# EAGLE library part 74LVC8T245 (library X893)
http://focus.ti.com/lit/ds/symlink/sn74lvc8t245.pdf
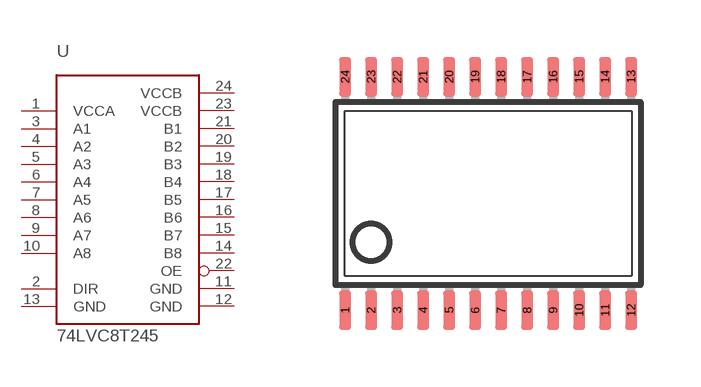
[diagram p78: symbol with the pads of TSSOP24; footprint TSSOP24]

Designator prefix U

## 74LVC8T245PWR  [TSSOP24]
1  VCCA  pas
2  DIR  in
3  A1
4  A2
5  A3
6  A4
7  A5
8  A6
9  A7
10  A8
11  GND  sup
12  GND  sup
13  GND  sup
14  B8
15  B7
16  B6
17  B5
18  B4
19  B3
20  B2
21  B1
22  OE  in
23  VCCB  pas
24  VCCB  pas

## Footprint TSSOP24 (pad centres in mm)
Thin Shrink Small Outline Plastic 24 MAX3223-MAX3243.pdf
smd 0.305 x 0.991: 1 -3.575,-2.918; 2 -2.925,-2.918; 3 -2.275,-2.918; 4 -1.625,-2.918; 5 -0.975,-2.918; 6 -0.325,-2.918; 7 0.325,-2.918; 8 0.975,-2.918; 9 1.625,-2.918; 10 2.275,-2.918; 11 2.925,-2.918; 12 3.575,-2.918; 13 3.575,2.918; 14 2.925,2.918; 15 2.275,2.918; 16 1.625,2.918; 17 0.975,2.918; 18 0.325,2.918; 19 -0.325,2.918; 20 -0.975,2.918; 21 -1.625,2.918; 22 -2.275,2.918; 23 -2.925,2.918; 24 -3.575,2.918